# Altium footprint library PcbLib1.PcbLib: 46 footprints (part 1 of 3)
Each footprint in its own frame and in the unit in brackets; x right, y up, seen from the top. Pads: shape width x height; smd on the part's side, far side on the other; paste and mask are expansions set on the pad; w line width, h text height; cw(c..) or ccw(c..) is an arc to the next point about the centre after c.
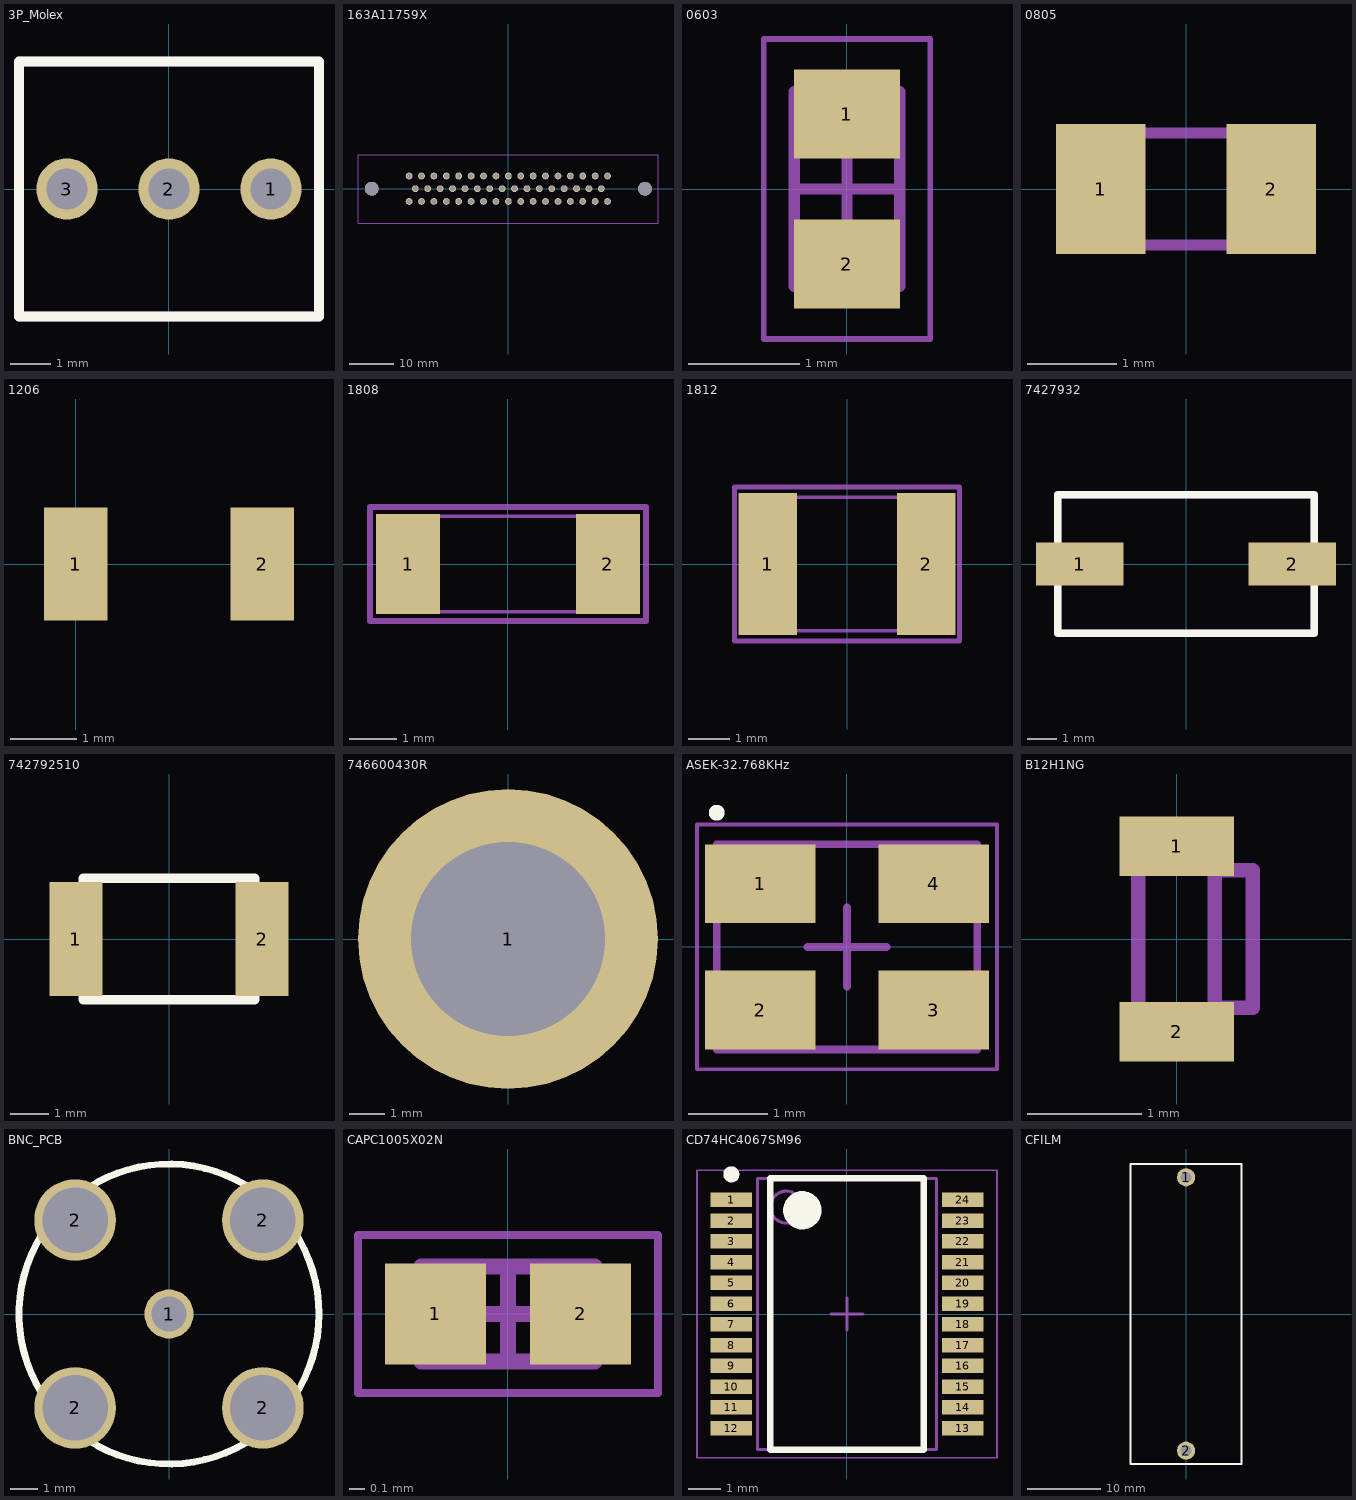
[diagram p0: the footprints below, top view; thin cyan lines are the x and y axes]

## 3P_Molex [mil]
pads (3):
  round 60 hole 40.16: 1(100,0) 2(0,0) 3(-100,0)
Top Overlay:
  lines w10: -147.05,-125 147.05,-125 147.05,125 -147.05,125 -147.05,-125
Mechanical 1:
  lines w10: -147.05,-125 147.05,-125 147.05,125 -147.05,125 -147.05,-125
3D body "3-Pin Header with Lock (0_100in pitch).STEP": height 420.74, standoff -139.1, extent -150,-125 150,125

## 163A11759X [mm]
pads (52):
  round 1.524 hole 1.1: 1(-22.16,2.84) 2(-19.39,2.84) 3(-16.62,2.84) 4(-13.85,2.84) 5(-11.08,2.84) 6(-8.31,2.84) 7(-5.54,2.84) 8(-2.77,2.84) 9(0,2.84) 10(2.77,2.84) 11(5.54,2.84) 12(8.31,2.84) 13(11.08,2.84) 14(13.85,2.84) 15(16.62,2.84) 16(19.39,2.84) 17(22.16,2.84) 18(-20.775,0) 19(-18.005,0) 20(-15.235,0) 21(-12.465,0) 22(-9.695,0) 23(-6.925,0) 24(-4.155,0) 25(-1.385,0) 26(1.385,0) 27(4.155,0) 28(6.925,0) 29(9.695,0) 30(12.465,0) 31(15.235,0) 32(18.005,0) 33(20.775,0) 34(-22.16,-2.84) 35(-19.39,-2.84) 36(-16.62,-2.84) 37(-13.85,-2.84) 38(-11.08,-2.84) 39(-8.31,-2.84) 40(-5.54,-2.84) 41(-2.77,-2.84) 42(0,-2.84) 43(2.77,-2.84) 44(5.54,-2.84) 45(8.31,-2.84) 46(11.08,-2.84) 47(13.85,-2.84) 48(16.62,-2.84) 49(19.39,-2.84) 50(22.16,-2.84)
  round 3.1 hole 3.1 unplated: ""(-30.5,0) ""(30.5,0)
Mechanical 1:
  lines w0.254: -33.575,-7.74 33.425,-7.74 33.425,7.61 -33.575,7.61 -33.575,-7.74
3D body "DDM50P732N.STEP": height 16.68, standoff -1.88, extent -33.576,-16.586 33.524,5.153

## 0603 [mm]
pads (2):
  rect 0.95x0.8 smd: 1(0,0.675) 2(0,-0.675)
Mechanical 13:
  lines w0.1: -0.475,-0.875 0.475,-0.875 0.475,0.875 -0.475,0.875 -0.475,-0.875
Mechanical 15:
  lines w0.05: -0.75,-1.35 0.75,-1.35 0.75,1.35 -0.75,1.35 -0.75,-1.35
  lines w0.1: -0.475,0 0.475,0 ; 0,-0.475 0,0.475
3D body: height 0.55, standoff 0, extent -0.475,-0.575 0.475,0.575
3D body: height 0.55, standoff 0, extent -0.475,0.575 0.475,0.875
3D body: height 0.55, standoff 0, extent -0.475,-0.875 0.475,-0.575

## 0805 [mm]
pads (2):
  rect 1x1.45 smd: 1(-0.95,0) 2(0.95,0)
Mechanical 1:
  lines w0.127: -1,-0.625 1,-0.625 1,0.625 -1,0.625 -1,-0.625
3D body: height 1.25, standoff 0, extent -1,-0.625 1,0.625

## 1206 [mm]
pads (2):
  rect 0.95x1.7 smd: 1(0,0) 2(2.8,0)

## 1808 [mm]
pads (2):
  rect 1.35x2.1 smd: 1(-2.1,0) 2(2.1,0)
Mechanical 1:
  lines w0.076: -2.35,-1 2.35,-1 2.35,1 -2.35,1 -2.35,-1
  lines w0.127: -2.9,-1.2 2.9,-1.2 2.9,1.2 -2.9,1.2 -2.9,-1.2
3D body: height 3.5, standoff 0, extent -2.35,-1 2.35,1

## 1812 [mm]
pads (2):
  rect 1.4x3.4 smd: 1(-1.9,0) 2(1.9,0)
Mechanical 1:
  lines w0.076: -2.25,-1.6 2.25,-1.6 2.25,1.6 -2.25,1.6 -2.25,-1.6
  lines w0.127: -2.7,-1.85 2.7,-1.85 2.7,1.85 -2.7,1.85 -2.7,-1.85
3D body: height 1.1, standoff 0, extent -2.25,-1.6 2.25,1.6

## 7427932 [mm]
pads (2):
  rect 3x1.47 smd: 1(-3.65,0) 2(3.65,0)
Top Overlay:
  lines w0.254: -4.4,-2.375 4.4,-2.375 4.4,2.375 -4.4,2.375 -4.4,-2.375
Mechanical 1:
  lines w0.254: -4.4,-2.375 4.4,-2.375 4.4,2.375 -4.4,2.375 -4.4,-2.375
3D body: height 3, standoff 0, extent -4.4,-2.375 4.4,2.375

## 742792510 [mm]
pads (2):
  rect 1.4x3 smd: 1(-2.45,0) 2(2.45,0)
Top Overlay:
  lines w0.254: -2.25,-1.6 2.25,-1.6 2.25,1.6 -2.25,1.6 -2.25,-1.6
Mechanical 1:
  lines w0.127: -2.25,-1.6 2.25,-1.6 2.25,1.6 -2.25,1.6 -2.25,-1.6
3D body: height 1.5, standoff 0, extent -2.25,-1.6 2.25,1.6

## 746600430R [mm]
pads (1):
  round 8.5 hole 5.5: 1(0,0)
3D body "746600430R v1.step": height 3, standoff -1, extent -3.5,-3.497 3.5,3.497

## ASEK-32.768KHz [mm]
height 1.2
pads (4):
  rect 1.4x1 smd: 1(-1.1,0.8) 2(-1.1,-0.8) 3(1.1,-0.8) 4(1.1,0.8)
Top Overlay:
  circle w0.1: c-1.65,1.7 r0.05
Mechanical 13:
  lines w0.1: -1.65,-1.3 -1.65,1.3 1.65,1.3 1.65,-1.3 -1.65,-1.3
Mechanical 15:
  lines w0.05: -1.9,-1.55 -1.9,1.55 1.9,1.55 1.9,-1.55 -1.9,-1.55
  lines w0.1: -0.5,0 0.5,0 ; 0,-0.5 0,0.5
3D body "ASEK-32.768KHz.step": height 1.2, standoff 0, extent -1.65,-1.3 1.9,1.3

## B12H1NG [mm]
pads (2):
  rect 1x0.52 smd: 1(0,0.81) 2(0,-0.81)
Mechanical 1:
  lines w0.127: -0.335,-0.9 0.335,-0.9 0.335,0.9 -0.335,0.9 -0.335,-0.9 ; 0.335,-0.6 0.665,-0.6 0.665,0.6 0.335,0.6 0.335,-0.6
3D body: height 0.35, standoff 0, extent -0.335,-0.9 0.665,0.9

## BNC_PCB [mm]
pads (5):
  round 1.8 hole 1.3: 1(0,0)
  round 3 hole 2.4: 2(-3.44,-3.44) 2(-3.44,3.44) 2(3.44,-3.44) 2(3.44,3.44)
Top Overlay:
  circle w0.254: c0,0 r5.5
3D body "031-5329-51RFX.stp": height 16.74, standoff -4.36, extent -5.5,-5.5 5.5,5.5

## CAPC1005X02N [mm] "Chip Capacitor, 2-Leads, Body 1,00x0,50mm, IPC Medium Density"
height 0.2
pads (2):
  rect 0.64x0.64 smd: 1(-0.46,0) 2(0.46,0)
Mechanical 13:
  lines w0.1: -0.55,-0.3 0.55,-0.3 0.55,0.3 -0.55,0.3 -0.55,-0.3
Mechanical 15:
  lines w0.05: -0.95,-0.5 0.95,-0.5 0.95,0.5 -0.95,0.5 -0.95,-0.5
  lines w0.1: -0.3,0 0.3,0 ; 0,-0.3 0,0.3
3D body: height 0.2, standoff 0, extent 0.35,-0.3 0.55,0.3
3D body: height 0.2, standoff 0, extent -0.55,-0.3 -0.35,0.3
3D body: height 0.2, standoff 0, extent -0.35,-0.3 0.35,0.3

## CD74HC4067SM96 [mm]
height 2
pads (24):
  rect 1.31x0.45 smd: 1(-3.625,3.575) 2(-3.625,2.925) 3(-3.625,2.275) 4(-3.625,1.625) 5(-3.625,0.975) 6(-3.625,0.325) 7(-3.625,-0.325) 8(-3.625,-0.975) 9(-3.625,-1.625) 10(-3.625,-2.275) 11(-3.625,-2.925) 12(-3.625,-3.575) 13(3.625,-3.575) 14(3.625,-2.925) 15(3.625,-2.275) 16(3.625,-1.625) 17(3.625,-0.975) 18(3.625,-0.325) 19(3.625,0.325) 20(3.625,0.975) 21(3.625,1.625) 22(3.625,2.275) 23(3.625,2.925) 24(3.625,3.575)
Top Overlay:
  circle w0.6: c-1.4,3.25 r0.3
  circle w0.25: c-3.625,4.375 r0.125
  lines w0.2: -2.4,-4.25 2.4,-4.25 2.4,4.25 -2.4,4.25 -2.4,-4.25
Mechanical 13:
  circle w0.1: c-1.9,3.35 r0.5
  lines w0.1: -2.8,-4.25 2.8,-4.25 2.8,4.25 -2.8,4.25 -2.8,-4.25
Mechanical 15:
  lines w0.05: -4.7,-4.5 4.7,-4.5 4.7,4.5 -4.7,4.5 -4.7,-4.5
  lines w0.1: -0.5,0 0.5,0 ; 0,-0.5 0,0.5
3D body "CD74HC4067.step": height 2, standoff 0, extent -3.9,-4.25 3.9,4.25

## CFILM [mm]
pads (2):
  round 2.5 hole 1.5: 1(0,18.75) 2(0,-18.75)
Top Overlay:
  lines w0.254: -7.646,-20.548 -7.646,20.548 -7.62,20.574 7.62,20.574 7.62,-20.574 -7.62,-20.574 -7.646,-20.548
3D body "EZP-V60106LTT.STEP": height 29, standoff -6, extent -7.5,-20.5 7.5,20.5